# EAGLE library part LMP90080 (library Mine)
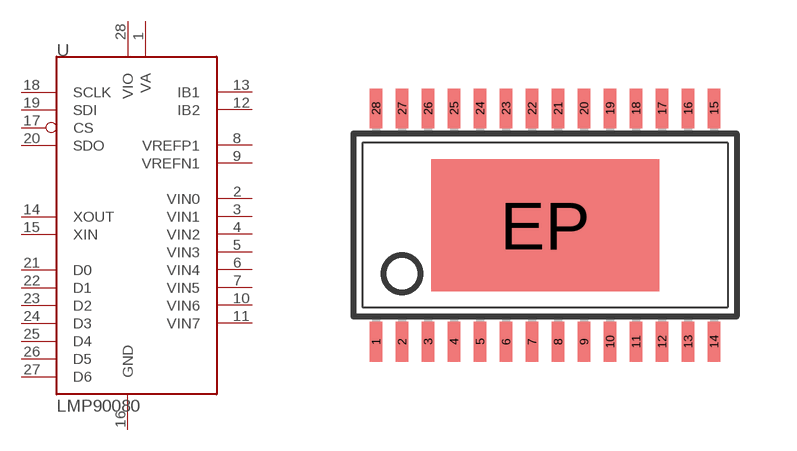
[diagram p56: symbol with the pads of HTSSOP28; footprint HTSSOP28]

Designator prefix -

## LMP90080  [HTSSOP28]
1  VA  sup
2  VIN0  in
3  VIN1  in
4  VIN2  in
5  VIN3  in
6  VIN4  in
7  VIN5  in
8  VREFP1  in
9  VREFN1  in
10  VIN6  in
11  VIN7  in
12  IB2  out
13  IB1  out
14  XOUT  out
15  XIN  in
16  GND  sup
17  CS  in
18  SCLK  in
19  SDI  in
20  SDO  out
21  D0
22  D1
23  D2
24  D3
25  D4
26  D5
27  D6
28  VIO  sup

## Footprint HTSSOP28 (pad centres in mm)
smd 0.305 x 0.991: 1 -4.225,-2.918; 2 -3.575,-2.918; 3 -2.925,-2.918; 4 -2.275,-2.918; 5 -1.625,-2.918; 6 -0.975,-2.918; 7 -0.325,-2.918; 8 0.325,-2.918; 9 0.975,-2.918; 10 1.625,-2.918; 11 2.275,-2.918; 12 2.925,-2.918; 13 3.575,-2.918; 14 4.225,-2.918; 15 4.225,2.918; 16 3.575,2.918; 17 2.925,2.918; 18 2.275,2.918; 19 1.625,2.918; 20 0.975,2.918; 21 0.325,2.918; 22 -0.325,2.918; 23 -0.975,2.918; 24 -1.625,2.918; 25 -2.275,2.918; 26 -2.925,2.918; 27 -3.575,2.918; 28 -4.225,2.918
smd 5.7 x 3.3: EP 0,-0.01